# Altium footprint library Sangjian_Pcb.PcbLib: 434 footprints (part 13 of 28)
Each footprint in its own frame and in the unit in brackets; x right, y up, seen from the top. Pads: shape width x height; smd on the part's side, far side on the other; paste and mask are expansions set on the pad; w line width, h text height; cw(c..) or ccw(c..) is an arc to the next point about the centre after c.
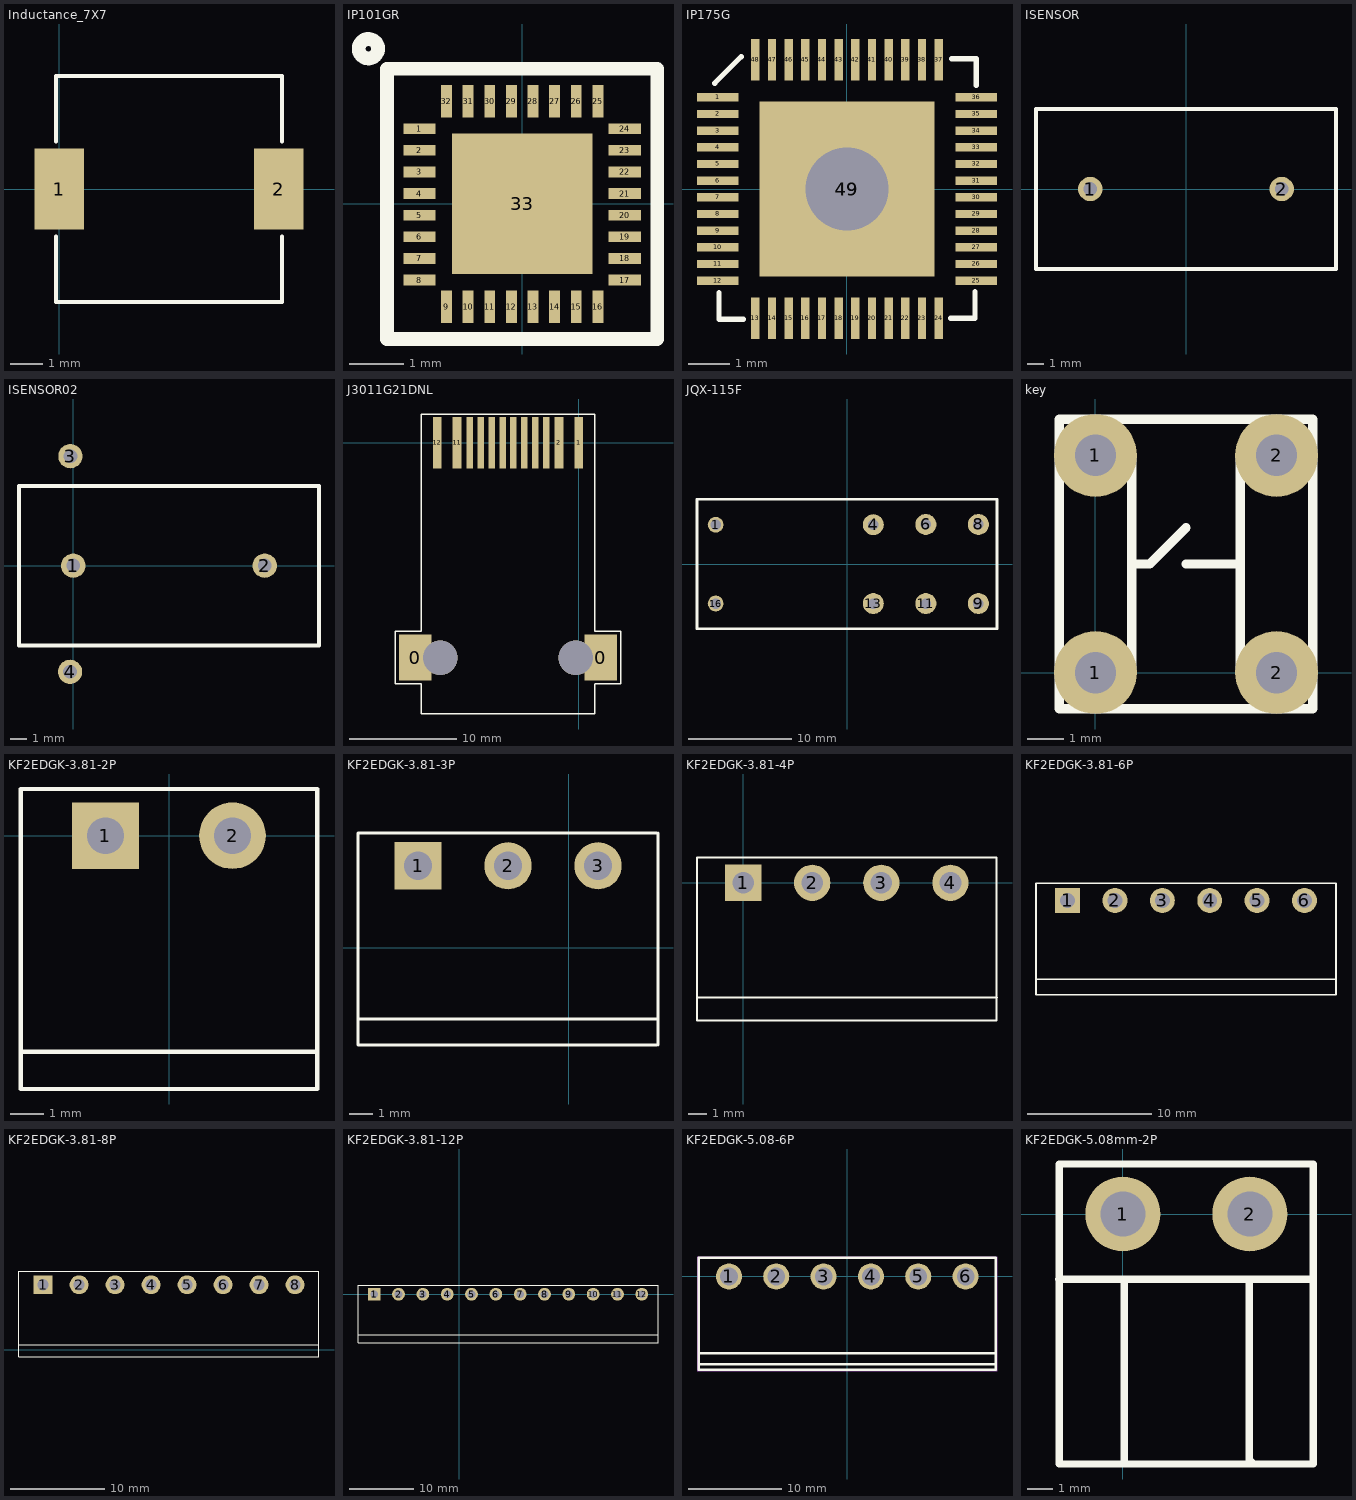
[diagram p12: the footprints below, top view; thin cyan lines are the x and y axes]

## Inductance_7X7 [mm]
pads (2):
  rect 1.524x2.5 smd: 1(0,0) 2(6.8,0)
Top Overlay:
  lines w0.127: -0.1,-1.468 -0.1,-3.5 6.9,-3.5 6.9,-1.468 ; -0.1,1.468 -0.1,3.5 6.9,3.5 6.9,1.468

## IP101GR [mm]
pads (33):
  rect 0.6x0.2 smd: 1(-1.9,1.39) 2(-1.9,0.99) 3(-1.9,0.59) 4(-1.9,0.19) 5(-1.9,-0.21) 6(-1.9,-0.61) 7(-1.9,-1.01) 8(-1.9,-1.41) 17(1.9,-1.41) 18(1.9,-1.01) 19(1.9,-0.61) 20(1.9,-0.21) 21(1.9,0.19) 22(1.9,0.59) 23(1.9,0.99) 24(1.9,1.39)
  rect 0.2x0.6 smd: 9(-1.4,-1.9) 10(-1,-1.9) 11(-0.6,-1.9) 12(-0.2,-1.9) 13(0.2,-1.9) 14(0.6,-1.9) 15(1,-1.9) 16(1.4,-1.9) 25(1.4,1.9) 26(1,1.9) 27(0.6,1.9) 28(0.2,1.9) 29(-0.2,1.9) 30(-0.6,1.9) 31(-1,1.9) 32(-1.4,1.9)
  rect 2.6x2.6 smd: 33(0,0)
Top Overlay:
  circle w0.254: c-2.845,2.87 r0.18
  lines w0.254: -2.5,-2.5 2.5,-2.5 2.5,2.5 -2.5,2.5 -2.5,-2.5

## IP175G [mm]
pads (50):
  rect 1x0.2 smd: 1(-3.1,2.2) 2(-3.1,1.8) 3(-3.1,1.4) 4(-3.1,1) 5(-3.1,0.6) 6(-3.1,0.2) 7(-3.1,-0.2) 8(-3.1,-0.6) 9(-3.1,-1) 10(-3.1,-1.4) 11(-3.1,-1.8) 12(-3.1,-2.2) 25(3.1,-2.2) 26(3.1,-1.8) 27(3.1,-1.4) 28(3.1,-1) 29(3.1,-0.6) 30(3.1,-0.2) 31(3.1,0.2) 32(3.1,0.6) 33(3.1,1) 34(3.1,1.4) 35(3.1,1.8) 36(3.1,2.2)
  rect 0.2x1 smd: 13(-2.2,-3.1) 14(-1.8,-3.1) 15(-1.4,-3.1) 16(-1,-3.1) 17(-0.6,-3.1) 18(-0.2,-3.1) 19(0.2,-3.1) 20(0.6,-3.1) 21(1,-3.1) 22(1.4,-3.1) 23(1.8,-3.1) 24(2.2,-3.1) 37(2.2,3.1) 38(1.8,3.1) 39(1.4,3.1) 40(1,3.1) 41(0.6,3.1) 42(0.2,3.1) 43(-0.2,3.1) 44(-0.6,3.1) 45(-1,3.1) 46(-1.4,3.1) 47(-1.8,3.1) 48(-2.2,3.1)
  rect 4.2x4.2 smd: 49(0,0)
  round 3 hole 2: 49(0,0)
Top Overlay:
  lines w0.127: -3.175,2.54 -2.54,3.175 ; -3.073,-2.489 -3.073,-3.124 -2.489,-3.124 ; 2.489,-3.099 3.073,-3.099 3.073,-2.464 ; 2.515,3.124 3.099,3.124 3.099,2.489

## ISENSOR [mil]
pads (2):
  round 60 hole 34: 1(-236.22,0) 2(236.22,0)
Top Overlay:
  lines w10: -370.08,-196.85 -370.08,196.85 370.08,196.85 370.08,-196.85 -370.08,-196.85

## ISENSOR02 [mil]
pads (4):
  round 60 hole 34: 1(0,0) 2(472.44,0) 3(-7,270) 4(-8,-262)
Top Overlay:
  lines w10: -133.86,-196.85 606.3,-196.85 606.3,196.85 -133.86,196.85 -133.86,-196.85

## J3011G21DNL [mm]
pads (14):
  rect 3.048x4.318 smd: 0(-15.281,-20.114) 0(2.06,-20.114)
  rect 0.81x4.826 smd: 1(0,0) 2(-1.84,0) 11(-11.38,0) 12(-13.22,0)
  rect 0.61x4.826 smd: 3(-3.04,0) 4(-4.06,0) 5(-5.08,0) 6(-6.1,0) 7(-7.12,0) 8(-8.14,0) 9(-9.16,0) 10(-10.18,0)
via -12.961,-20.114 diameter 3.25 hole 3.25
via -0.261,-20.114 diameter 3.25 hole 3.25
Top Overlay:
  lines w0.127: 1.49,-22.606 1.49,-25.394 -14.711,-25.394 -14.711,-22.569 -16.253,-22.569 -17.152,-22.569 -17.152,-17.66 -14.711,-17.66 -14.711,2.695 1.49,2.695 1.49,-17.66 3.93,-17.66 3.93,-22.569 1.49,-22.569 ; -17.011,-22.569 -17.01,-22.569

## JQX-115F [mil]
pads (8):
  round 60 hole 40: 1(-500,149.5) 16(-500,-150.5)
  round 80 hole 40: 4(100,149.5) 6(300,150.5) 8(500,150.5) 9(500,-150.5) 11(300,-150.5) 13(100,-150.5)
Top Overlay:
  lines w10: -570.87,-246.06 570.87,-246.06 570.87,246.06 -570.87,246.06 -570.87,-246.06

## key [mil]
pads (4):
  round 90 hole 45: 1(0,0) 1(0,236.22) 2(196.85,0) 2(196.85,236.22)
Top Overlay:
  lines w10: 39.37,0 39.37,236.22 ; 39.37,118.11 59.06,118.11 98.43,157.48 ; 98.43,118.11 157.48,118.11 ; 157.48,0 157.48,236.22 ; -39.37,-39.37 236.22,-39.37 236.22,275.59 -39.37,275.59 -39.37,-39.37

## KF2EDGK-3.81-2P [mm]
pads (2):
  rect 2x2 hole 1.1: 1(-1.905,0)
  round 2 hole 1.1: 2(1.905,0)
Top Overlay:
  lines w0.127: -4.45,-6.482 4.45,-6.482 ; -4.45,-7.6 4.45,-7.6 4.45,1.4 -4.45,1.4 -4.45,-7.6

## KF2EDGK-3.81-3P [mm]
pads (3):
  rect 2x2 hole 1.2: 1(-6.375,3.48)
  round 2 hole 1.2: 2(-2.565,3.48) 3(1.248,3.48)
Top Overlay:
  lines w0.127: -8.92,-3.003 3.759,-3.003 ; 3.734,-4.12 -8.92,-4.12 -8.92,4.88 3.734,4.88 ; 3.788,-4.12 3.788,4.88

## KF2EDGK-3.81-4P [mm]
pads (4):
  rect 2x2 hole 1.2: 1(0,0)
  round 2 hole 1.2: 2(3.81,0) 3(7.62,0) 4(11.43,0)
Top Overlay:
  lines w0.127: -2.52,-6.33 14,-6.33 ; -2.545,-7.6 -2.545,1.4 13.975,1.4 13.975,-7.6 -2.545,-7.6

## KF2EDGK-3.81-6P [mm]
pads (6):
  rect 2x2 hole 1.2: 1(-557.65,234.149)
  round 2 hole 1.2: 2(-553.84,234.149) 3(-550.03,234.149) 4(-546.22,234.149) 5(-542.41,234.149) 6(-538.6,234.149)
Top Overlay:
  lines w0.127: -560.17,227.819 -536.06,227.819 ; -560.195,226.549 -536.06,226.549 -536.06,235.549 -560.195,235.549 -560.195,226.549

## KF2EDGK-3.81-8P [mm]
pads (8):
  rect 2x2 hole 1.2: 1(29.319,6.87)
  round 2 hole 1.2: 2(33.129,6.87) 3(36.939,6.87) 4(40.749,6.87) 5(44.559,6.87) 6(48.369,6.87) 7(52.179,6.87) 8(55.989,6.87)
Top Overlay:
  lines w0.127: 26.799,0.54 58.529,0.54 ; 26.774,-0.73 58.529,-0.73 58.529,8.27 26.774,8.27 26.774,-0.73

## KF2EDGK-3.81-12P [mm]
pads (12):
  rect 2x2 hole 1.2: 1(-13.335,0)
  round 2 hole 1.2: 2(-9.525,0) 3(-5.715,0) 4(-1.905,0) 5(1.905,0) 6(5.715,0) 7(9.525,0) 8(13.335,0) 9(17.145,0) 10(20.955,0) 11(24.765,0) 12(28.575,0)
Top Overlay:
  lines w0.127: -15.855,-6.33 31.115,-6.33 ; -15.88,-7.6 31.115,-7.6 31.115,1.4 -15.88,1.4 -15.88,-7.6

## KF2EDGK-5.08-6P [mm]
pads (6):
  round 2.8 hole 1.9: 1(-12.7,0) 2(-7.62,0) 3(-2.54,0) 4(2.54,0) 5(7.62,0) 6(12.7,0)
Top Overlay:
  lines w0.254: -15.94,-9.413 15.94,-9.413 ; -15.94,-8.255 15.94,-8.255 ; -15.94,-10 -15.94,2 15.94,2 15.94,-10 -15.94,-10
Mechanical 15:
  drawing of 11 lines, arcs and shapes, not listed

## KF2EDGK-5.08mm-2P [mm]
pads (2):
  round 3 hole 1.8: 1(0,0) 2(5.08,0)
Top Overlay:
  lines w0.3: -2.562,-2.608 7.598,-2.608 ; 0.051,-2.692 0.051,-9.887 0.076,-9.913 ; 5.055,-2.642 5.055,-9.822 5.232,-10 ; 7.62,-10 -2.54,-10 -2.54,2 7.62,2 7.62,-9.924